# EAGLE library part 613022143121 (library Eagle_BOARD-TO-BOARD_CONNECTORS (rev18b))
WR-PHD 2.54mm Angled Socket Header, 22 Pins =>Code : Con_BTB_SHD_2.54_1_THT_613022143121 <http://katalog.we-online.de/media/images/eican/Con_BTB_SHD_2.54_1_THT_6130xx143121_pf2.jpg> Details see: http://katalog.we-online.de/en/em/613_0xx_143_121 Created 2014-05-29, Karrer Zheng 2014 (C) Würth Elektronik
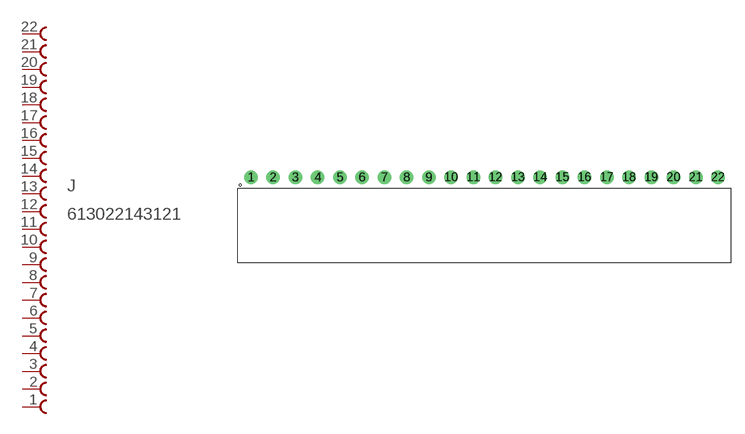
[diagram p139: symbol with the pads of 613022143121; footprint 613022143121]

Designator prefix J

## 613022143121  [613022143121]
1  22  pas
2  21  pas
3  20  pas
4  19  pas
5  18  pas
6  17  pas
7  16  pas
8  15  pas
9  14  pas
10  13  pas
11  12  pas
12  11  pas
13  10  pas
14  9  pas
15  8  pas
16  7  pas
17  6  pas
18  5  pas
19  4  pas
20  3  pas
21  2  pas
22  1  pas

## Footprint 613022143121 (pad centres in mm)
WR-PHD 2.54mm Angled Socket Header, 22 Pins
drill 1.02: 1 -26.67,0; 2 -24.13,0; 3 -21.59,0; 4 -19.05,0; 5 -16.51,0; 6 -13.97,0; 7 -11.43,0; 8 -8.89,0; 9 -6.35,0; 10 -3.81,0; 11 -1.27,0; 12 1.27,0; 13 3.81,0; 14 6.35,0; 15 8.89,0; 16 11.43,0; 17 13.97,0; 18 16.51,0; 19 19.05,0; 20 21.59,0; 21 24.13,0; 22 26.67,0